# Altium footprint library con-coax.PCBLIB: 28 footprints (part 2 of 2)
Each footprint in its own frame and in the unit in brackets; x right, y up, seen from the top. Pads: shape width x height; smd on the part's side, far side on the other; paste and mask are expansions set on the pad; w line width, h text height; cw(c..) or ccw(c..) is an arc to the next point about the centre after c.
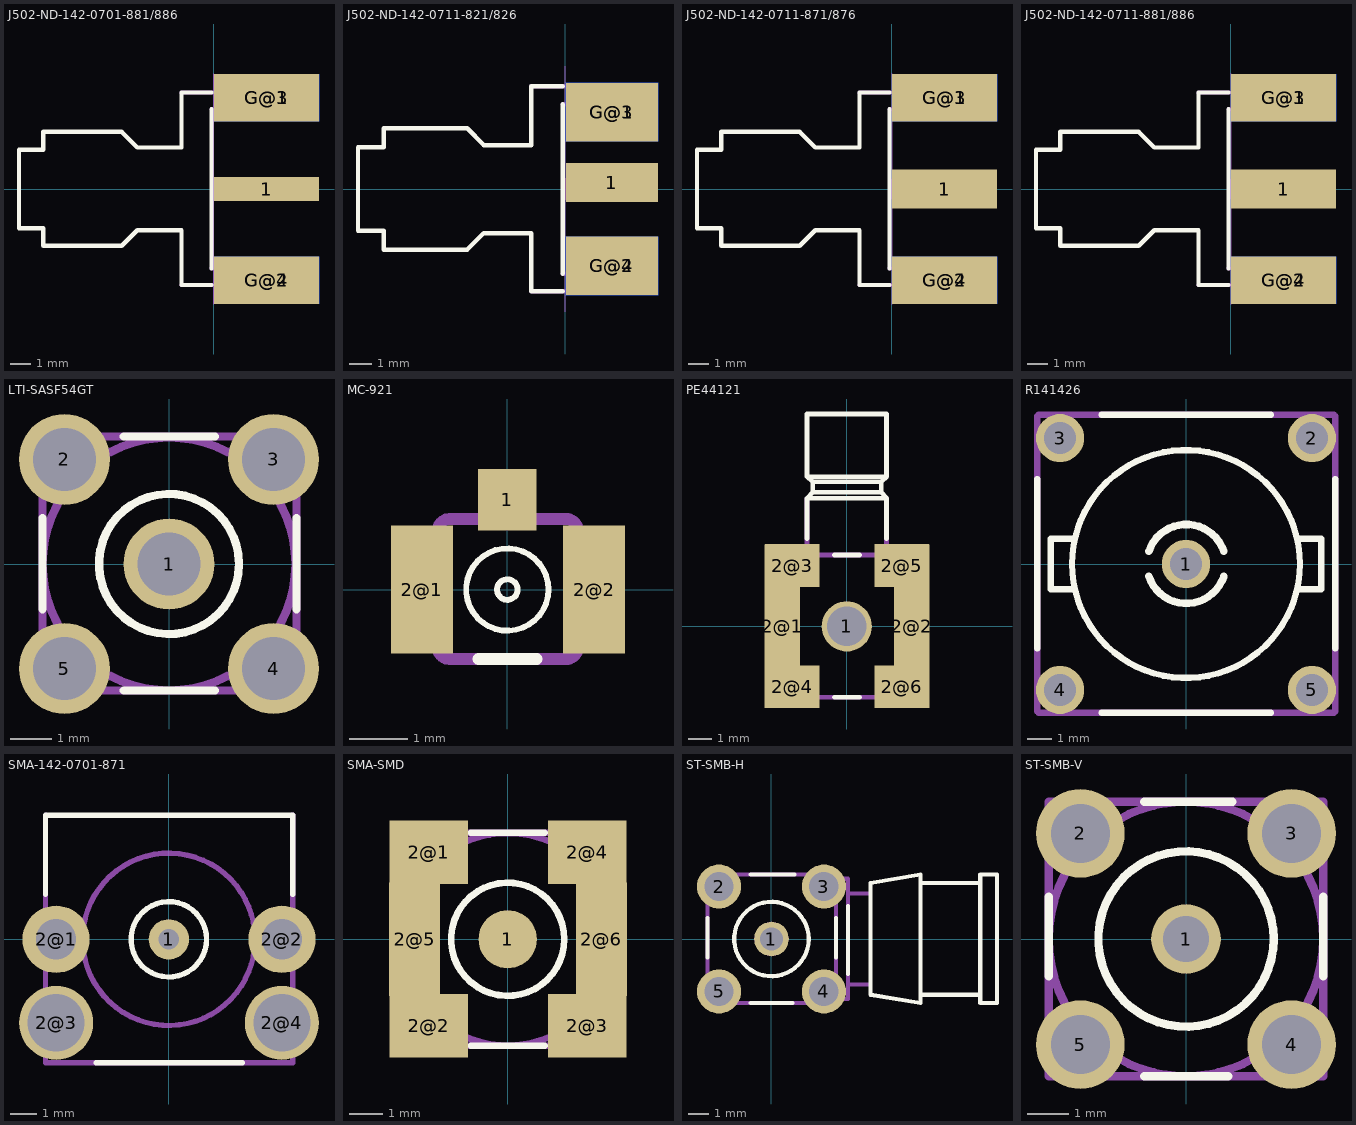
[diagram p1: the footprints below, top view; thin cyan lines are the x and y axes]

## J502-ND-142-0701-881/886 [mil]
pads (5):
  rect 200x45 smd: 1(101,0)
  rect 200x90 smd: G@1(101,174) G@2(101,-174)
  rect 200x90 smd far side: G@3(101,174) G@4(101,-174)
Top Overlay:
  lines w8: -3.94,-183.07 -61.02,-183.07 -61.02,-78.74 -145.67,-78.74 -175.2,-108.27 -324.8,-108.27 -324.8,-74.8 -371.06,-74.8 -371.06,75 -324.8,75 -324.8,109 -175.2,109 -145.67,79 -61.02,79 -61.02,184 -3.94,184 ; -3.94,-151.57 -3.94,152
Mechanical 1:
  lines w0: 0,-220 0,220
Mechanical 2:
  text ">NAME" at 25,250 h108.5
Mechanical 4:
  text ">VALUE" at 50,-350 h108.5
Mechanical 16:
  rectangle: -0.98,-19.68 160,20
  lines w8: -61.02,-183.07 184,-183.07 184,-151.57 -3.94,-151.57 ; -61.02,184 184,184 184,152 -3.94,152

## J502-ND-142-0711-821/826 [mil]
pads (5):
  rect 165x70 smd: 1(84,11.81)
  rect 165x105 smd: G@1(84,138) G@2(84,-137.58)
  rect 165x105 smd far side: G@3(84,138) G@4(84,-137.58)
Top Overlay:
  lines w8: -3.94,-183.07 -61.02,-183.07 -61.02,-78.74 -145.67,-78.74 -175.2,-108.27 -324.8,-108.27 -324.8,-74.8 -371.06,-74.8 -371.06,75 -324.8,75 -324.8,109 -175.2,109 -145.67,79 -61.02,79 -61.02,184 -3.94,184 ; -3.94,-151.57 -3.94,152
Mechanical 1:
  lines w0: 0,-220 0,220
Mechanical 2:
  text ">NAME" at 25,250 h108.5
Mechanical 4:
  text ">VALUE" at 50,-350 h108.5
Mechanical 16:
  rectangle: -0.98,-19.68 160,20
  lines w8: -61.02,-183.07 162,-183.07 162,-151.57 -3.94,-151.57 ; -61.02,184 162,184 162,152 -3.94,152

## J502-ND-142-0711-871/876 [mil]
pads (5):
  rect 200x75 smd: 1(101,0)
  rect 200x90 smd: G@1(101,174) G@2(101,-174)
  rect 200x90 smd far side: G@3(101,174) G@4(101,-174)
Top Overlay:
  lines w8: -3.94,-183.07 -61.02,-183.07 -61.02,-78.74 -145.67,-78.74 -175.2,-108.27 -324.8,-108.27 -324.8,-74.8 -371.06,-74.8 -371.06,75 -324.8,75 -324.8,109 -175.2,109 -145.67,79 -61.02,79 -61.02,184 -3.94,184 ; -3.94,-151.57 -3.94,152
Mechanical 1:
  lines w0: 0,-220 0,220
Mechanical 2:
  text ">NAME" at 25,250 h108.5
Mechanical 4:
  text ">VALUE" at 50,-350 h108.5
Mechanical 16:
  rectangle: -0.98,-19.68 160,20
  lines w8: -61.02,-183.07 184,-183.07 184,-151.57 -3.94,-151.57 ; -61.02,184 184,184 184,152 -3.94,152

## J502-ND-142-0711-881/886 [mil]
pads (5):
  rect 200x75 smd: 1(101,0)
  rect 200x90 smd: G@1(101,174) G@2(101,-174)
  rect 200x90 smd far side: G@3(101,174) G@4(101,-174)
Top Overlay:
  lines w8: -3.94,-183.07 -61.02,-183.07 -61.02,-78.74 -145.67,-78.74 -175.2,-108.27 -324.8,-108.27 -324.8,-74.8 -371.06,-74.8 -371.06,75 -324.8,75 -324.8,109 -175.2,109 -145.67,79 -61.02,79 -61.02,184 -3.94,184 ; -3.94,-151.57 -3.94,152
Mechanical 1:
  lines w0: 0,-220 0,220
Mechanical 2:
  text ">NAME" at 25,250 h108.5
Mechanical 4:
  text ">VALUE" at 50,-350 h108.5
Mechanical 16:
  rectangle: -0.98,-19.68 160,20
  lines w8: -61.02,-183.07 184,-183.07 184,-151.57 -3.94,-151.57 ; -61.02,184 184,184 184,152 -3.94,152

## LTI-SASF54GT [mil]
pads (5):
  round 87 hole 60: 1(0,0) 2(-100,100) 3(100,100) 4(100,-100) 5(-100,-100)
Top Overlay:
  circle w8: c0,0 r67
  lines w8: -121.06,-43.31 -121.06,44 ; -43.31,-121.06 44,-121.06 ; -43.31,122 44,122 ; 122,-43.31 122,44
Mechanical 2:
  text ">NAME" at -100,175 h77.5
Mechanical 4:
  text ">VALUE" at -125,-225 h77.5
Mechanical 16:
  circle w8: c0,0 r121
  lines w8: -121.06,-121.06 122,-121.06 122,122 -121.06,122 -121.06,-121.06

## MC-921 [mil]
pads (3):
  rect 40x42 smd: 1(0,61)
  rect 42x87 smd: 2@1(-58.07,0) 2@2(59,0)
Top Overlay:
  circle w4: c0,0 r28
  circle w4: c0,0 r7
  lines w8: -19.68,-47.24 20,-47.24
Mechanical 16:
  rectangle: -11.81,52 12,62
  lines w8: -47.24,-39.37 ccw(c-39.37,-39.37) -39.37,-47.24 40,-47.24 ccw(c40.06,-39.31) 48,-39.37 48,40 ccw(c40,40) 40,48 -39.37,48 ccw(c-39.31,40.06) -47.24,40 -47.24,-39.37

## PE44121 [mil]
pads (7):
  round 86 hole 68: 1(0,0)
  rect 60x280 smd: 2@1(-110.24,0) 2@2(111,0)
  rect 93x73 smd: 2@3(-93.5,104) 2@4(-93.5,-103.35) 2@5(94,104) 2@6(94,-103.35)
Top Overlay:
  lines w8: -67.91,150 -67.91,219 ; -21.06,-121.06 22,-121.06 ; -21.06,122 22,122 ; 68,150 68,219 ; -67.91,219 -58.07,229 ; -67.91,219 68,219 ; -67.91,256 -67.91,363 68,363 68,256 ; -67.91,256 -58.07,247 ; -67.91,256 68,256 ; -58.07,229 -58.07,247 ; -58.07,229 59,229 ; -58.07,247 59,247 ; 59,229 68,219 ; 59,229 59,247 ; 59,247 68,256
Mechanical 2:
  text ">NAME" at -100,150 h77.5
Mechanical 4:
  text ">VALUE" at 150,150 h77.5
Mechanical 16:
  lines w8: -67.91,125 -67.91,219 ; 68,125 68,219 ; -121.06,-121.06 122,-121.06 122,122 -121.06,122 -121.06,-121.06

## R141426 [mil]
pads (5):
  round 76.5 hole 51: 1(0,0) 2(200,200) 3(-200,200) 4(-200,-200) 5(200,-200)
Top Overlay:
  circle w10: c0,0 r181
  lines w10: -236.22,-134.25 -236.22,135 ; -180,-40 -215,-40 -215,40 -180,40 ; -134.25,-236.22 135,-236.22 ; -134.25,237 135,237 ; 180,-40 215,-40 215,40 180,40 ; 237,-134.25 237,135
  lines w12: -59.06,-19.69 ccw(c0.47,0.16) 60,-19.69 ; -59.06,20 cw(c0.47,0.16) 60,20
Mechanical 2:
  text ">NAME" at -100,250 h77.5
Mechanical 4:
  text ">VALUE" at -100,-300 h77.5
Mechanical 16:
  lines w10: -236.22,-234.25 -236.22,235 ; -234.25,-236.22 235,-236.22 ; -234.25,237 235,237 ; 237,-234.25 237,235

## SMA-142-0701-871 [mil]
pads (5):
  round 60 hole 30: 1(0,0)
  round 100 hole 60: 2@1(-167.5,0) 2@2(168,0)
  round 110 hole 85: 2@3(-167.5,-124) 2@4(168,-124)
Top Overlay:
  circle w8: c0,0 r56
  lines w8: -183.07,67 -183.07,184 184,184 184,67 ; -108.07,-183.07 109,-183.07
Mechanical 2:
  text ">NAME" at -200,200 h77.5
Mechanical 4:
  text ">VALUE" at -200,-250 h77.5
Mechanical 16:
  circle w8: c0,0 r128
  rectangle: -187.99,-19.68 -147.64,20
  rectangle: -187.99,-127.69 -147.64,-88.31
  rectangle: -187.99,-160.69 -147.64,-121.31
  region: 188,20 148,20 148,-19.68 188,-19.69
  region: 188,-88.31 148,-88.31 148,-127.69 188,-127.69
  region: 188,-121.31 148,-121.31 148,-160.69 188,-160.69
  lines w8: -183.07,184 -183.07,-183.07 184,-183.07 184,184

## SMA-SMD [mil]
pads (7):
  rrect100% 69x69 smd: 1(0,0)
  rect 93x75 smd: 2@1(-93.5,103) 2@2(-93.5,-102.36) 2@3(94,-102.36) 2@4(94,103)
  rect 60x134 smd: 2@5(-110.24,0) 2@6(111,0)
Top Overlay:
  circle w8: c0,0 r67
  lines w8: -43.31,-125.98 44,-125.98 ; -43.31,126 44,126
Mechanical 2:
  text ">NAME" at -100,175 h77.5
Mechanical 4:
  text ">VALUE" at -125,-225 h77.5
Mechanical 16:
  circle w8: c0,0 r126
  lines w8: -125.98,-125.98 126,-125.98 126,126 -125.98,126 -125.98,-125.98

## ST-SMB-H [mil]
pads (5):
  round 66 hole 44: 1(0,0)
  round 84 hole 56: 2(-100,100) 3(100,100) 4(100,-100) 5(-100,-100)
Top Overlay:
  circle w8: c0,0 r71
  lines w8: -122.05,-35.43 -122.05,40 ; -39.37,-122.05 40,-122.05 ; -39.37,123 44,123 ; 123,-35.43 123,40 ; 146,-66.93 146,63 ; 284,-106.3 284,107 ; 284,-106.3 398,-106.3 ; 284,-106.3 284,-122.05 189,-106.3 189,107 284,123 284,107 ; 284,107 398,107 ; 398,-106.3 398,107 ; 398,-106.3 398,-122.05 430,-122.05 430,123 398,123 398,107
Mechanical 2:
  text ">NAME" at -100,175 h77.5
Mechanical 4:
  text ">VALUE" at -125,-225 h77.5
Mechanical 16:
  circle w40: c0,0 r12
  lines w8: 126,-114.17 146,-114.17 146,-86.61 ; 126,115 146,115 146,87 ; 146,-51.18 146,-86.61 ; 146,52 146,87 ; 186,-86.61 146,-86.61 ; 186,87 146,87 ; -122.05,-122.05 123,-122.05 123,123 -122.05,123 -122.05,-122.05

## ST-SMB-V [mil]
pads (5):
  round 66 hole 44: 1(0,0)
  round 84 hole 56: 2(-100,100) 3(100,100) 4(100,-100) 5(-100,-100)
Top Overlay:
  circle w8: c0,0 r83
  lines w8: -129.92,-35.43 -129.92,40 ; -39.37,-129.92 40,-129.92 ; -39.37,130 44,130 ; 130,-35.43 130,40
Mechanical 2:
  text ">NAME" at -100,175 h77.5
Mechanical 4:
  text ">VALUE" at -125,-225 h77.5
Mechanical 16:
  circle w40: c0,0 r12
  circle w8: c0,0 r130
  lines w8: -129.92,-129.92 130,-129.92 130,130 -129.92,130 -129.92,-129.92